# Altium schematic symbol library module relay.SchLib: 1 symbol
Pins are listed as number, name and electrical type; pins without a type are passive.

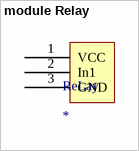
[diagram p0: symbol module Relay]

## module Relay
designator ReLay
footprint Module relay
pins: 1 VCC, 2 In1, 3 GND